# Altium footprint library PcbLib.PcbLib: 51 footprints (part 2 of 4)
Each footprint in its own frame and in the unit in brackets; x right, y up, seen from the top. Pads: shape width x height; smd on the part's side, far side on the other; paste and mask are expansions set on the pad; w line width, h text height; cw(c..) or ccw(c..) is an arc to the next point about the centre after c.
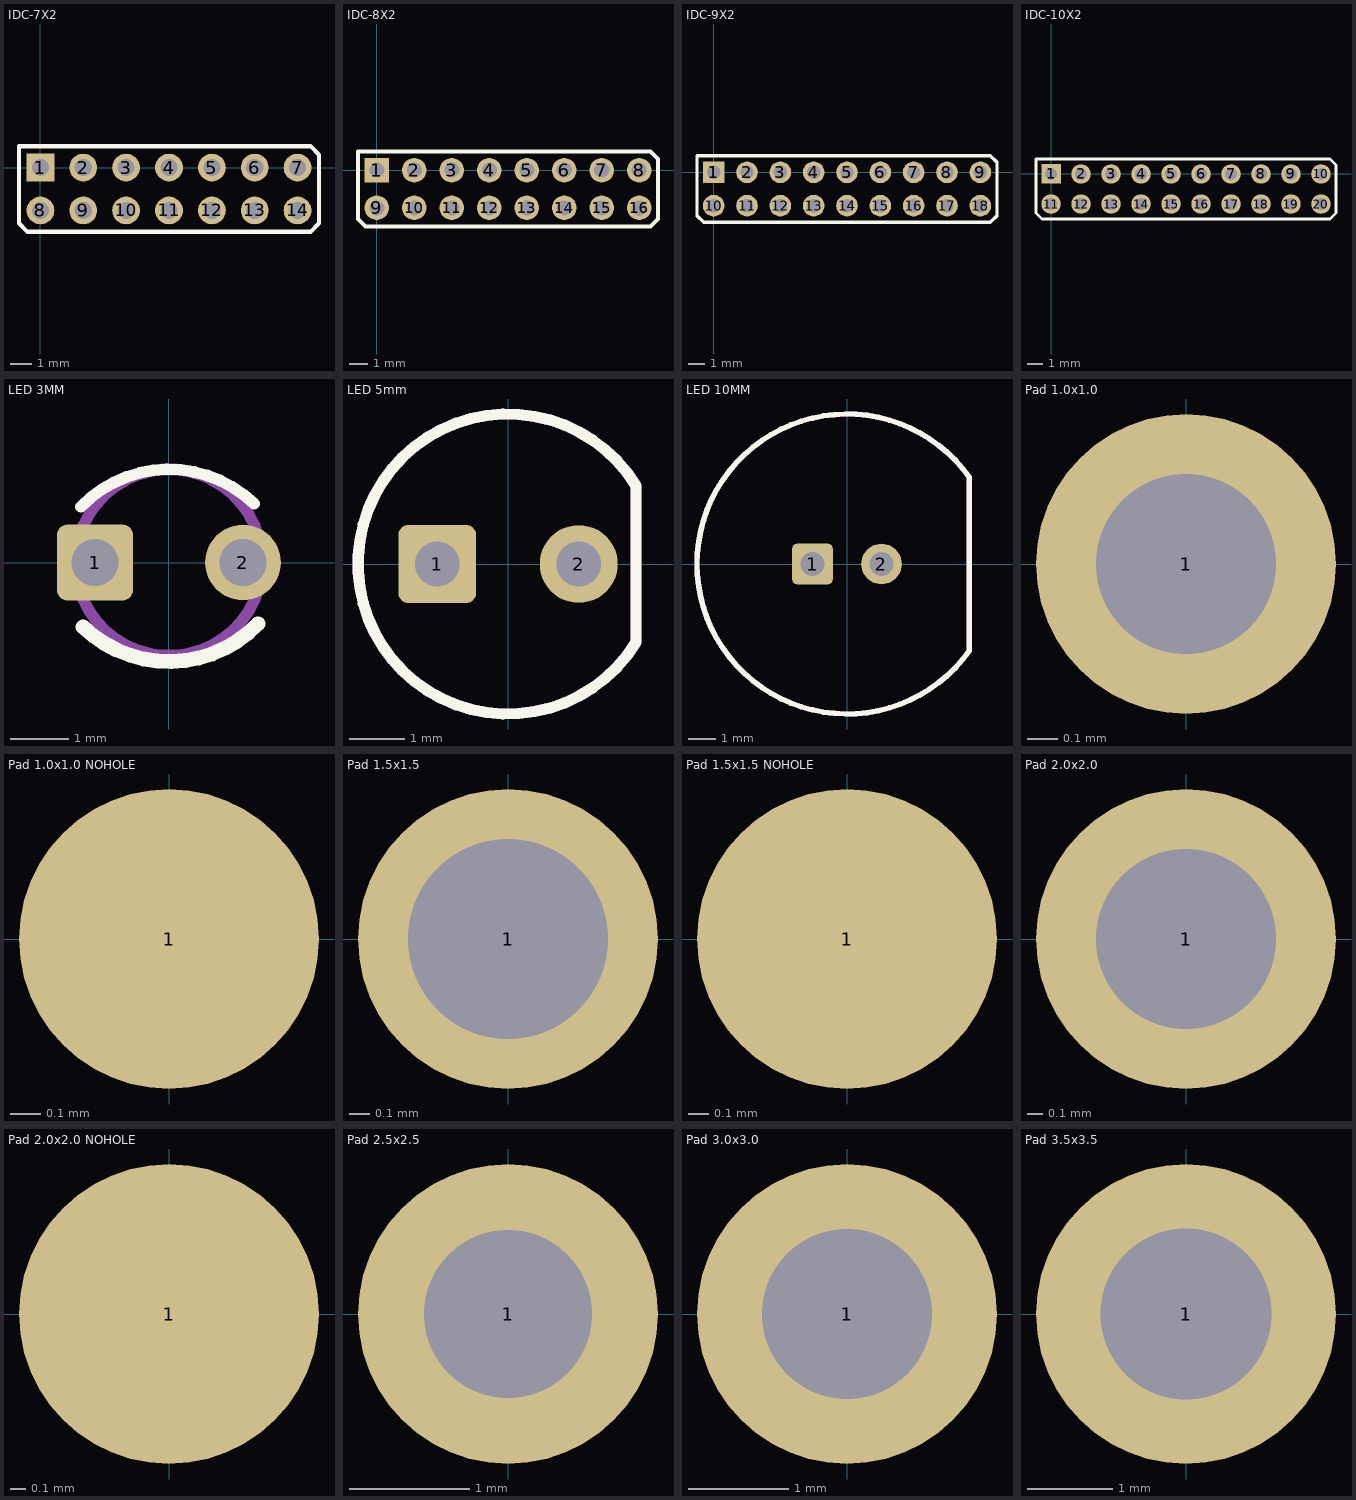
[diagram p1: the footprints below, top view; thin cyan lines are the x and y axes]

## IDC-7X2 [mm]
pads (14):
  rect 1.3x1.3 hole 0.8: 1(0,0)
  round 1.3 hole 0.8: 2(2,0) 3(4,0) 4(6,0) 5(8,0) 6(10,0) 7(12,0) 8(0,-2) 9(2,-2) 10(4,-2) 11(6,-2) 12(8,-2) 13(10,-2) 14(12,-2)
Top Overlay:
  lines w0.2: -1,-2.6 -1,1 12.6,1 13,0.6 13,-2.6 12.6,-3 -0.6,-3 -1,-2.6

## IDC-8X2 [mm]
pads (16):
  rect 1.3x1.3 hole 0.8: 1(0,0)
  round 1.3 hole 0.8: 2(2,0) 3(4,0) 4(6,0) 5(8,0) 6(10,0) 7(12,0) 8(14,0) 9(0,-2) 10(2,-2) 11(4,-2) 12(6,-2) 13(8,-2) 14(10,-2) 15(12,-2) 16(14,-2)
Top Overlay:
  lines w0.2: -1,-2.6 -1,1 14.6,1 15,0.6 15,-2.6 14.6,-3 -0.6,-3 -1,-2.6

## IDC-9X2 [mm]
pads (18):
  rect 1.3x1.3 hole 0.8: 1(0,0)
  round 1.3 hole 0.8: 2(2,0) 3(4,0) 4(6,0) 5(8,0) 6(10,0) 7(12,0) 8(14,0) 9(16,0) 10(0,-2) 11(2,-2) 12(4,-2) 13(6,-2) 14(8,-2) 15(10,-2) 16(12,-2) 17(14,-2) 18(16,-2)
Top Overlay:
  lines w0.2: -1,-2.6 -0.6,-3 16.6,-3 17,-2.6 17,0.6 16.6,1 -1,1 -1,-2.6

## IDC-10X2 [mm]
pads (20):
  rect 1.3x1.3 hole 0.8: 1(0,0)
  round 1.3 hole 0.8: 2(2,0) 3(4,0) 4(6,0) 5(8,0) 6(10,0) 7(12,0) 8(14,0) 9(16,0) 10(18,0) 11(0,-2) 12(2,-2) 13(4,-2) 14(6,-2) 15(8,-2) 16(10,-2) 17(12,-2) 18(14,-2) 19(16,-2) 20(18,-2)
Top Overlay:
  lines w0.2: -1,-2.6 -1,1 18.6,1 19,0.6 19,-2.6 18.6,-3 -0.6,-3 -1,-2.6

## LED 3MM [mm]
pads (2):
  rrect25% 1.3x1.3 hole 0.8: 1(-1.27,0)
  round 1.3 hole 0.8: 2(1.27,0)
Top Overlay:
  lines w0.2: -1.511,0.958 cw(c0,-0.5) 1.458,1.011
  lines w0.254: -1.476,-1.104 ccw(c0,0.425) 1.529,-1.051
Mechanical 1:
  circle w0.2: c0,0 r1.6

## LED 5mm [mm]
pads (2):
  rrect25% 1.4x1.4 hole 0.8: 1(-1.27,0)
  round 1.4 hole 0.8: 2(1.27,0)
Top Overlay:
  lines w0.2: 2.3,-1.4 cw(c0,0) 2.3,1.4 2.3,-1.4
Mechanical 1:
  lines w0.2: 2.3,-1.4 cw(c0,0) 2.3,1.4 2.3,-1.4
3D body "LED5mm.STEP": height 0, standoff 0, extent -0.325,0.35 -0.325,0.35
3D body "LED5mm.STEP": height 0, standoff 0, extent -1.3,-3.075 -1.3,-3.075
3D body "LED5mm.STEP": height 0, standoff 0, extent -0.325,-0.55 -0.325,-0.55

## LED 10MM [mm]
pads (2):
  rrect25% 1.5x1.5 hole 0.9: 1(-1.27,0)
  round 1.5 hole 0.9: 2(1.27,0)
Top Overlay:
  lines w0.2: 4.5,-3.2 cw(c0,0) 4.5,3.2 4.5,-3.2
Mechanical 1:
  lines w0.2: 4.5,-3.2 cw(c0,0) 4.5,3.2 4.5,-3.2

## Pad 1.0x1.0 [mm]
pads (1):
  round 1 hole 0.6: 1(0,0)

## Pad 1.0x1.0 NOHOLE [mm]
pads (1):
  round 1 smd: 1(0,0)

## Pad 1.5x1.5 [mm]
pads (1):
  round 1.5 hole 1: 1(0,0)

## Pad 1.5x1.5 NOHOLE [mm]
pads (1):
  round 1.5 smd: 1(0,0)

## Pad 2.0x2.0 [mm]
pads (1):
  round 2 hole 1.2: 1(0,0)

## Pad 2.0x2.0 NOHOLE [mm]
pads (1):
  round 2 smd: 1(0,0)

## Pad 2.5x2.5 [mm]
pads (1):
  round 2.5 hole 1.4: 1(0,0)

## Pad 3.0x3.0 [mm]
pads (1):
  round 3 hole 1.7: 1(0,0)

## Pad 3.5x3.5 [mm]
pads (1):
  round 3.5 hole 2: 1(0,0)